# EAGLE library part PCF8574PW (library crasbe)
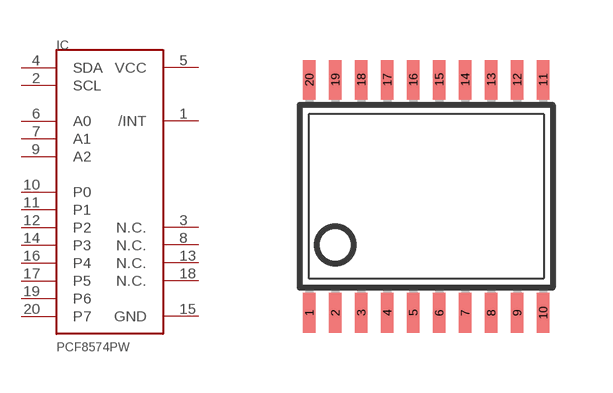
[diagram p28: symbol with the pads of TSSOP-20; footprint TSSOP-20]

Designator prefix IC

## PCF8574PW  [TSSOP-20]
1  /INT  out
2  SCL  in
3  N.C.  nc
4  SDA
5  VCC  pwr
6  A0  in
7  A1  in
8  N.C.  nc
9  A2  in
10  P0
11  P1
12  P2
13  N.C.  nc
14  P3
15  GND  pwr
16  P4
17  P5
18  N.C.  nc
19  P6
20  P7

## Footprint TSSOP-20 (pad centres in mm)
smd 0.305 x 0.991: 1 -2.925,-2.918; 2 -2.275,-2.918; 3 -1.625,-2.918; 4 -0.975,-2.918; 5 -0.325,-2.918; 6 0.325,-2.918; 7 0.975,-2.918; 8 1.625,-2.918; 9 2.275,-2.918; 10 2.925,-2.918; 11 2.925,2.918; 12 2.275,2.918; 13 1.625,2.918; 14 0.975,2.918; 15 0.325,2.918; 16 -0.325,2.918; 17 -0.975,2.918; 18 -1.625,2.918; 19 -2.275,2.918; 20 -2.925,2.918